# EAGLE library part AK4520A (library xess)
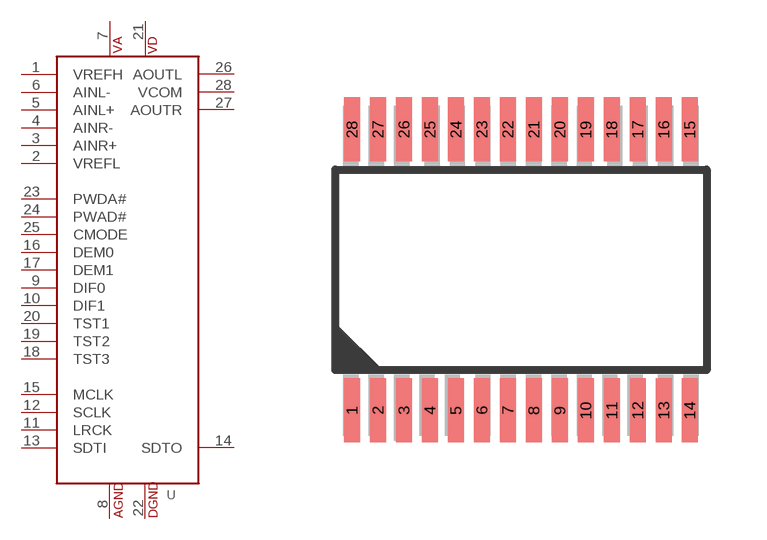
[diagram p4: symbol with the pads of VSOP28; footprint VSOP28]

Designator prefix U

## AK4520A  [VSOP28]
1  VREFH
2  VREFL
3  AINR+
4  AINR-
5  AINL+
6  AINL-
7  VA  pwr
8  AGND  pwr
9  DIF0
10  DIF1
11  LRCK
12  SCLK
13  SDTI
14  SDTO
15  MCLK
16  DEM0
17  DEM1
18  TST3
19  TST2
20  TST1
21  VD  pwr
22  DGND  pwr
23  PWDA#
24  PWAD#
25  CMODE
26  AOUTL
27  AOUTR
28  VCOM

## Footprint VSOP28 (pad centres in mm)
smd 0.4 x 1.6: 1 -4.225,-6.6; 2 -3.575,-6.6; 3 -2.925,-6.6; 4 -2.275,-6.6; 5 -1.625,-6.6; 6 -0.975,-6.6; 7 -0.325,-6.6; 8 0.325,-6.6; 9 0.975,-6.6; 10 1.625,-6.6; 11 2.275,-6.6; 12 2.925,-6.6; 13 3.575,-6.6; 14 4.225,-6.6; 15 4.225,0.42; 16 3.575,0.42; 17 2.925,0.42; 18 2.275,0.42; 19 1.625,0.42; 20 0.975,0.42; 21 0.325,0.42; 22 -0.325,0.42; 23 -0.975,0.42; 24 -1.625,0.42; 25 -2.275,0.42; 26 -2.925,0.42; 27 -3.575,0.42; 28 -4.225,0.42